# Altium footprint library 贴片电阻.PcbLib: 20 footprints (part 2 of 2)
Each footprint in its own frame and in the unit in brackets; x right, y up, seen from the top. Pads: shape width x height; smd on the part's side, far side on the other; paste and mask are expansions set on the pad; w line width, h text height; cw(c..) or ccw(c..) is an arc to the next point about the centre after c.
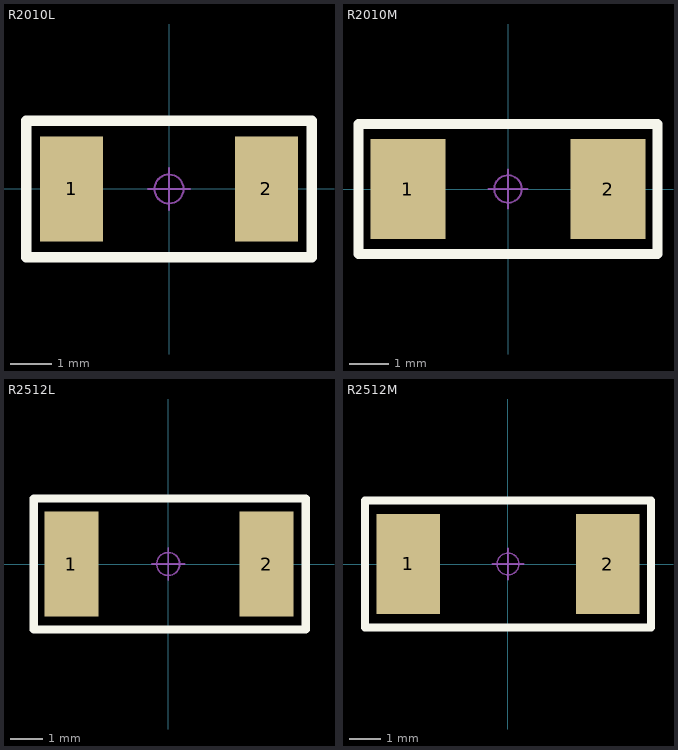
[diagram p1: the footprints below, top view; thin cyan lines are the x and y axes]

## R2010L [mm] "3/4W贴片电阻"
pads (2):
  rect 1.52x2.54 smd: 1(-2.35,0) 2(2.35,0)
Top Overlay:
  lines w0.254: -3.45,-1.651 -3.45,1.651 1.27,1.651 3.45,1.651 3.45,-1.651 1.27,-1.651 -3.45,-1.651
Mechanical 15:
  circle w0.05: c0,0 r0.35
  lines w0.05: -0.5,0 0.5,0 ; 0,-0.5 0,0.5
3D body "R 2010.STEP": height 0.55, standoff -0.01, extent -2.5,-1.25 2.5,1.25

## R2010M [mm] "3/4W贴片电阻"
pads (2):
  rect 1.905x2.54 smd: 1(-2.55,0) 2(2.55,0)
Top Overlay:
  lines w0.254: -3.81,-1.651 -3.81,0.635 -3.81,1.651 1.27,1.651 3.81,1.651 3.81,-0.635 3.81,-1.651 1.27,-1.651 -3.81,-1.651
Mechanical 15:
  circle w0.05: c0,0 r0.35
  lines w0.05: -0.5,0 0.5,0 ; 0,-0.5 0,0.5
3D body "R 2010.STEP": height 0.55, standoff -0.01, extent -2.5,-1.25 2.5,1.25

## R2512L [mm] "1W贴片电阻"
pads (2):
  rect 1.65x3.2 smd: 1(-2.95,0) 2(3,0)
Top Overlay:
  lines w0.254: -4.1,-2 -4.1,2 4.2,2 4.2,-2 -4.1,-2
Mechanical 15:
  circle w0.05: c0,0 r0.35
  lines w0.05: -0.5,0 0.5,0 ; 0,-0.5 0,0.5
3D body "R 2512.STEP": height 0.55, standoff -0.02, extent -3.2,-1.6 3.2,1.6

## R2512M [mm] "1W贴片电阻"
pads (2):
  rect 2.032x3.2 smd: 1(-3.2,0) 2(3.2,0)
Top Overlay:
  lines w0.254: -4.572,-2.032 4.572,-2.032 4.572,2.032 -4.572,2.032 -4.572,-2.032
Mechanical 15:
  circle w0.05: c0,0 r0.35
  lines w0.05: -0.5,0 0.5,0 ; 0,-0.5 0,0.5
3D body "R 2512.STEP": height 0.55, standoff -0.02, extent -3.2,-1.6 3.2,1.6